# EAGLE library part 5051101292 (library Conversor+5V)
CONN FPC BOTTOM 12POS .5MM R/A Manufacturer's datasheet <https://www.molex.com/pdm_docs/sd/5051101292_sd.pdf>
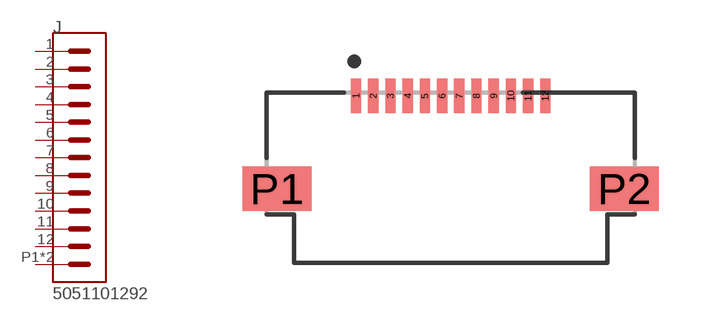
[diagram p17: symbol with the pads of 5051101292; footprint 5051101292]

Designator prefix J

## 5051101292 (CATEGORY: FFC & FPC Connectors; CREATED_BY: PCBLayout.com; DESCRIPTION: FFC & FPC Connectors 0.5 FPC ZIF BTM CONT EMBT PKG 12Ckt; DIGIKEY_PART_NUMBER: WM12368TR-ND; MANUFACTURER: Molex; MPN: 5051101292; OPERATING_TEMPERATURE: - 40 C to 105 C; ROHS_COMPLIANT: COMPLIANT; SERIES: 505110; SUB_CATEGORY: Header; TYPE: 12 Position Right Angle; VALUE: 500 mA)  [5051101292]
1  1  pas
2  2  pas
3  3  pas
4  4  pas
5  5  pas
6  6  pas
7  7  pas
8  8  pas
9  9  pas
10  10  pas
11  11  pas
12  12  pas
P1  SHIELD  pwr
P2  SHIELD  pwr

## Footprint 5051101292 (pad centres in mm)
smd 0.3 x 1: 1 -3.18,2; 2 -2.68,2; 3 -2.18,2; 4 -1.68,2; 5 -1.18,2; 6 -0.68,2; 7 -0.18,2; 8 0.32,2; 9 0.82,2; 10 1.32,2; 11 1.82,2; 12 2.32,2
smd 2 x 1.3: P1 -5.48,-0.7; P2 4.62,-0.7